# Altium footprint library DualMetro.PcbLib: 19 footprints (part 2 of 2)
Each footprint in its own frame and in the unit in brackets; x right, y up, seen from the top. Pads: shape width x height; smd on the part's side, far side on the other; paste and mask are expansions set on the pad; w line width, h text height; cw(c..) or ccw(c..) is an arc to the next point about the centre after c.
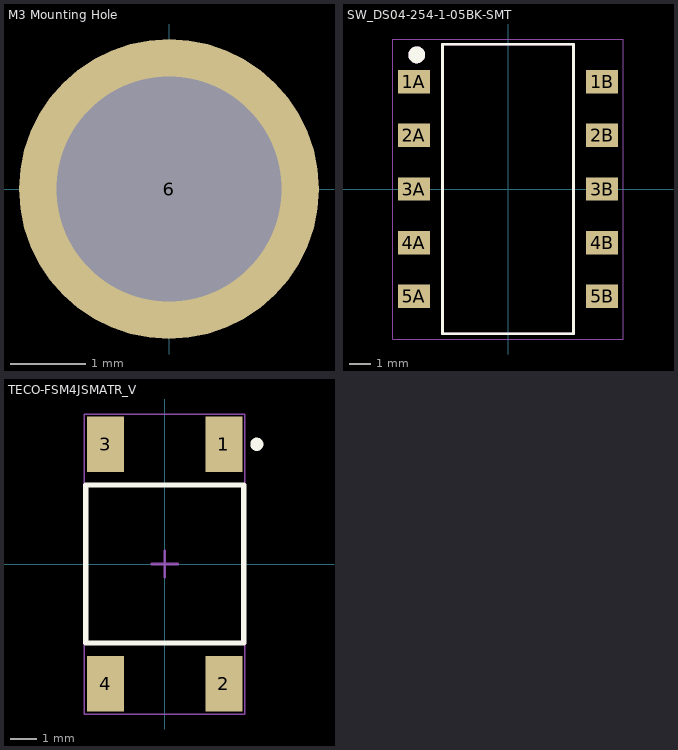
[diagram p1: the footprints below, top view; thin cyan lines are the x and y axes]

## M3 Mounting Hole [mm]
pads (1):
  round 4 hole 3: 6(0,0)

## SW_DS04-254-1-05BK-SMT [mm]
height 4.86
pads (10):
  rect 1.5x1.1 smd: 1A(-4.45,5.08) 1B(4.45,5.08) 2A(-4.45,2.54) 2B(4.45,2.54) 3A(-4.45,0) 3B(4.45,0) 4A(-4.45,-2.54) 4B(4.45,-2.54) 5A(-4.45,-5.08) 5B(4.45,-5.08)
Top Overlay:
  circle w0.4: c-4.318,6.35 r0.2
  lines w0.127: -3.1,-6.85 3.1,-6.85 3.1,6.85 -3.1,6.85 -3.1,-6.85
Mechanical 13:
  circle w0.4: c-4.318,6.35 r0.2
  lines w0.127: -3.1,-6.85 3.1,-6.85 3.1,6.85 -3.1,6.85 -3.1,-6.85
Mechanical 15:
  lines w0.05: -5.45,-7.1 -5.45,7.1 5.45,7.1 5.45,-7.1 -5.45,-7.1
3D body "CUI_DEVICES_DS04-254-1-05BK-SMT.step": height 4.56, standoff 0.01, extent -4.978,-6.798 4.922,6.902

## TECO-FSM4JSMATR_V [mm] "SMD, 4-Leads, Body 6x6mm, Pitch 4.5mm"
height 5.23
pads (4):
  rect 1.4x2.1 smd: 1(2.25,4.55) 2(2.25,-4.55) 3(-2.25,4.55) 4(-2.25,-4.55)
Top Overlay:
  circle w0.25: c3.5,4.55 r0.125
  lines w0.2: -3,-3 -3,3 3,3 3,-3 -3,-3
Mechanical 13:
  lines w0.1: -3,-3 3,-3 3,3 -3,3 -3,-3
Mechanical 15:
  lines w0.05: -3.05,-5.7 3.05,-5.7 3.05,5.7 -3.05,5.7 -3.05,-5.7
  lines w0.1: -0.5,0 0.5,0 ; 0,-0.5 0,0.5
3D body "c-4-1437565-2-s-3d.stp": height 5.08, standoff 0, extent -3,-5 3,5